# Altium integrated library 2N3904.IntLib: 1 symbol
Pins are listed as number, name and electrical type; pins without a type are passive.

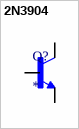
[diagram p0: symbol 2N3904]

## 2N3904
designator Q?
2N3904; Package: None; Price: None; Availability: Unavailable; MP: 2N3904; Value: *
footprint TO92127P495H495-3
pins: 1 E, 2 B, 3 C